# EAGLE library part 128X64-GLCD-A (library Eagle3D-Displays)
XIAMEN - GDM12864HLCM - 128 x 64 Graphical LCD Module (GLCD)
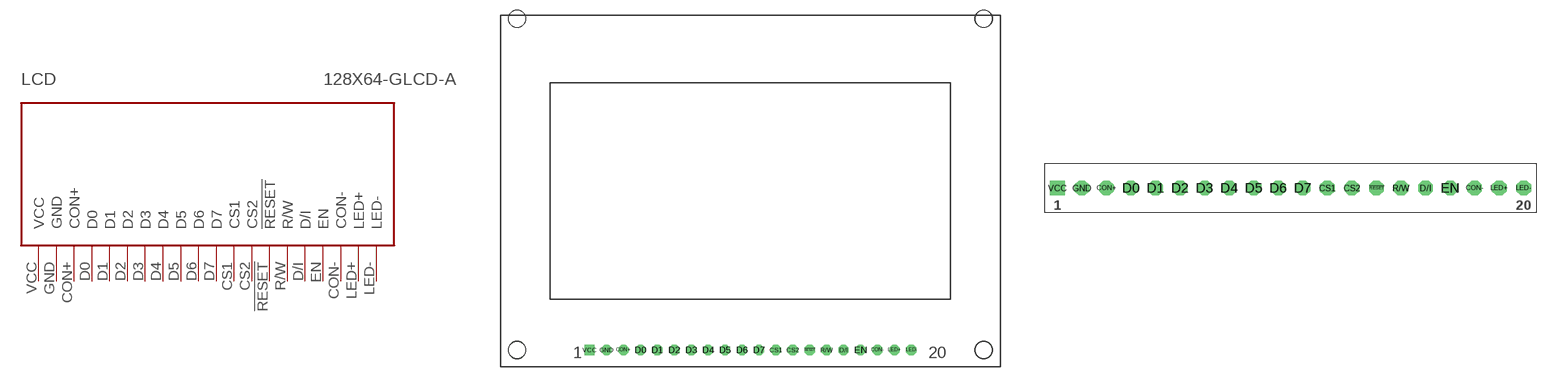
[diagram p1: symbol with the pads of 128X64-GLCD-A; footprints 128X64-GLCD-A, 128X64-GLCD-A-PINS]

Designator prefix LCD

## 128X64-GLCD-A  [128X64-GLCD-A]
!RESET  !RESET
CON+  CON+
CON-  CON-
CS1  CS1
CS2  CS2
D0  D0
D1  D1
D2  D2
D3  D3
D4  D4
D5  D5
D6  D6
D7  D7
D/I  D/I  in
EN  EN
GND  GND  pwr
LED+  LED+
LED-  LED-
R/W  R/W
VCC  VCC  pwr

## 128X64-GLCD-A-PINS  [128X64-GLCD-A-PINS]
Pads as for 128X64-GLCD-A

## Footprint 128X64-GLCD-A (pad centres in mm)
drill 1.016 octagon: !RESET 7.62,-25.4; CON+ -20.32,-25.4; CON- 17.78,-25.4; CS1 2.54,-25.4; CS2 5.08,-25.4; D0 -17.78,-25.4; D1 -15.24,-25.4; D2 -12.7,-25.4; D3 -10.16,-25.4; D4 -7.62,-25.4; D5 -5.08,-25.4; D6 -2.54,-25.4; D7 0,-25.4; D/I 12.7,-25.4; EN 15.24,-25.4; GND -22.86,-25.4; LED+ 20.32,-25.4; LED- 22.86,-25.4; R/W 10.16,-25.4
drill 1.016 square: VCC -25.4,-25.4
hole 2.5 at -36.3,-25.4
hole 2.5 at -36.3,24.3
hole 2.5 at 33.7,24.3
hole 2.5 at 33.7,-25.4

## Footprint 128X64-GLCD-A-PINS (pad centres in mm)
drill 1.016 octagon: !RESET 8.89,0; CON+ -19.05,0; CON- 19.05,0; CS1 3.81,0; CS2 6.35,0; D0 -16.51,0; D1 -13.97,0; D2 -11.43,0; D3 -8.89,0; D4 -6.35,0; D5 -3.81,0; D6 -1.27,0; D7 1.27,0; D/I 13.97,0; EN 16.51,0; GND -21.59,0; LED+ 21.59,0; LED- 24.13,0; R/W 11.43,0
drill 1.016 square: VCC -24.13,0